# Altium schematic symbol library SCH_SA45_DaughterCard.SchLib: 5 symbols
Pins are listed as number, name and electrical type; pins without a type are passive.

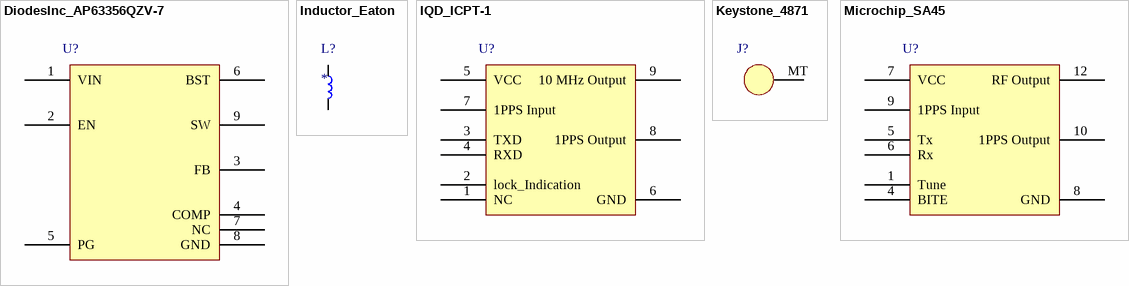
[diagram p0: symbols DiodesInc_AP63356QZV-7 to Microchip_SA45]

## DiodesInc_AP63356QZV-7
designator U?
Manufacturer: Diodes Incorporated; Manufacturer Part Number: AP63356QZV-7; System: connector; Supplier 1: *; Supplier Part Number 1: *; ComponentLink1Description: Datasheet; ComponentLink1URL: *
footprint DiodesInc_AP63356QZV-7
pins: 1 VIN, 2 EN, 3 FB, 4 COMP, 5 PG, 6 BST, 7 NC, 8 GND, 9 SW

## Inductor_Eaton
designator L?
footprint Eaton_HCM0703-4R7-R
pins: 1, 2

## IQD_ICPT-1
designator U?
Internal Part Number: XXX-XXXXX-XX; Manufacturer: Microchip; Manufacturer Part Number: 090-02984-001; System: connector; Supplier 1: *; Supplier Part Number 1: *; ComponentLink1Description: Datasheet; ComponentLink1URL: *
footprint IQD_ICPT-1
pins: 1 NC, 2 lock_Indication, 3 TXD, 4 RXD, 5 VCC, 6 GND, 7 1PPS Input, 8 1PPS Output, 9 10 MHz Output

## Keystone_4871
designator J?
Manufacturer: Keystone Electronics; Manufacturer Part Number: 4871; System: connector; Supplier 1: *; Supplier Part Number 1: *; ComponentLink1Description: Datasheet; ComponentLink1URL: *
footprint Keystone_4871 (Round Standoff Threaded #2-56 Steel 0.063" (1.60mm) 1/16")
pins: MT

## Microchip_SA45
designator U?
Internal Part Number: XXX-XXXXX-XX; Manufacturer: Microchip; Manufacturer Part Number: 090-02984-001; System: connector; Supplier 1: *; Supplier Part Number 1: *; ComponentLink1Description: Datasheet; ComponentLink1URL: *
footprint Microchip_SA45
pins: 1 Tune, 4 BITE, 5 Tx, 6 Rx, 7 VCC, 8 GND, 9 1PPS Input, 10 1PPS Output, 12 RF Output